# Altium footprint library GCMLibreriasPCB.PcbLib: 49 footprints (part 3 of 4)
Each footprint in its own frame and in the unit in brackets; x right, y up, seen from the top. Pads: shape width x height; smd on the part's side, far side on the other; paste and mask are expansions set on the pad; w line width, h text height; cw(c..) or ccw(c..) is an arc to the next point about the centre after c.
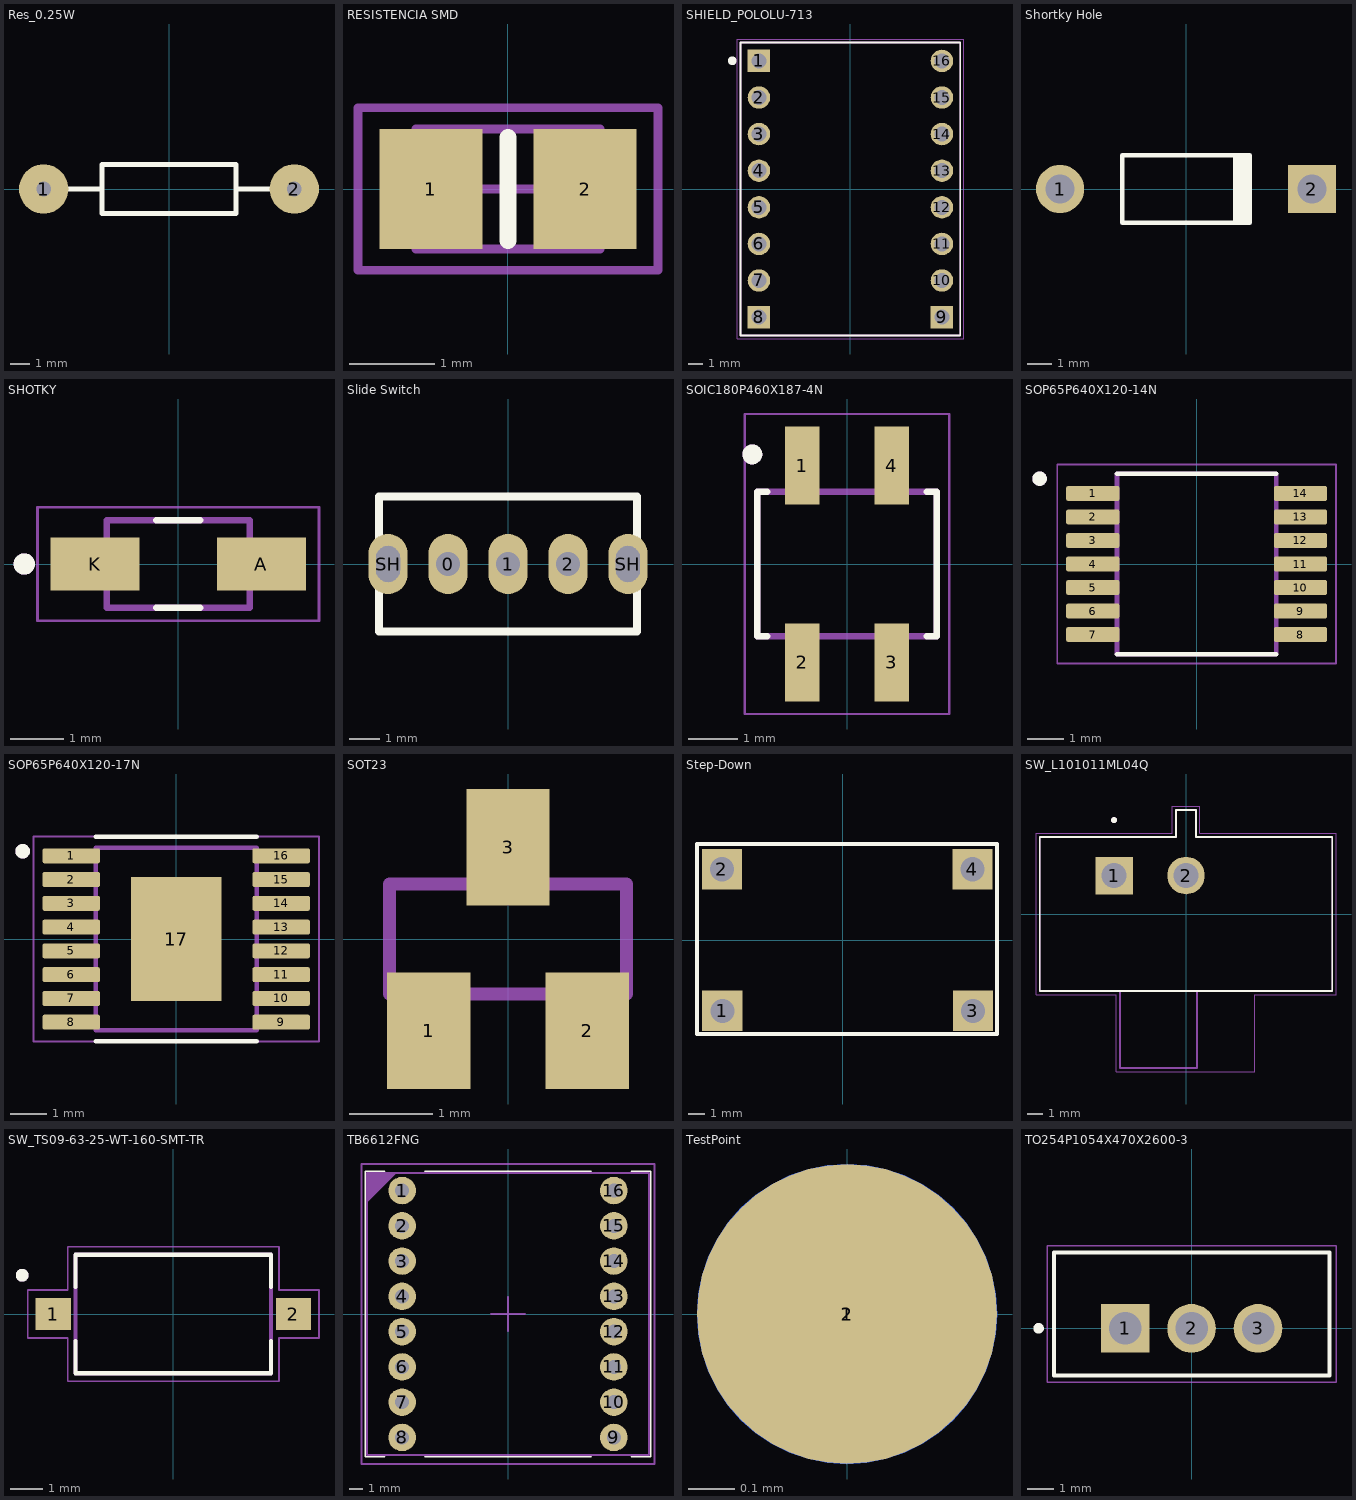
[diagram p2: the footprints below, top view; thin cyan lines are the x and y axes]

## Res_0.25W [mm]
pads (2):
  round 2.5 hole 0.75: 1(-6.35,0) 2(6.35,0)
Top Overlay:
  lines w0.254: -6.35,0 -3.4,0 ; 3.4,0 6.35,0 ; -3.4,-1.25 -3.4,1.25 3.4,1.25 3.4,-1.25 -3.4,-1.25

## RESISTENCIA SMD [mm] "0805"
height 0.7
pads (2):
  rect 1.2x1.4 smd: 1(-0.9,0) 2(0.9,0)
Top Overlay:
  lines w0.2: 0,-0.6 0,0.6
Mechanical 13:
  lines w0.1: -1.075,-0.7 1.075,-0.7 1.075,0.7 -1.075,0.7 -1.075,-0.7
Mechanical 15:
  lines w0.1: -0.5,0 0.5,0 ; 0,-0.5 0,0.5 ; -1.75,-0.95 1.75,-0.95 1.75,0.95 -1.75,0.95 -1.75,-0.95
3D body "ERA6AHD330V.STEP": height 0.6, standoff 0, extent -1,-0.61 1,0.64

## SHIELD_POLOLU-713 [mm]
pads (16):
  rect 1.56x1.56 hole 1.04: 1(-6.35,8.89) 8(-6.35,-8.89) 9(6.35,-8.89)
  round 1.56 hole 1.04: 2(-6.35,6.35) 3(-6.35,3.81) 4(-6.35,1.27) 5(-6.35,-1.27) 6(-6.35,-3.81) 7(-6.35,-6.35) 10(6.35,-6.35) 11(6.35,-3.81) 12(6.35,-1.27) 13(6.35,1.27) 14(6.35,3.81) 15(6.35,6.35) 16(6.35,8.89)
Top Overlay:
  circle w0.3: c-8.2,8.9 r0.15
  lines w0.127: -7.62,-10.16 -7.62,10.16 7.62,10.16 7.62,-10.16 -7.62,-10.16
Mechanical 13:
  lines w0.127: -7.62,-10.16 7.62,-10.16 7.62,10.16 -7.62,10.16 -7.62,-10.16
Mechanical 15:
  lines w0.05: -7.87,-10.41 -7.87,10.41 7.87,10.41 7.87,-10.41 -7.87,-10.41

## Shortky Hole [mm] "Diode, Axial; Body 5.2 x 2.7 mm (LxDia. max), Lead Dia. 0.86 mm (max)"
height 2.8
pads (2):
  round 2 hole 1.2: 1(-5.23,0)
  rect 2x2 hole 1.2: 2(5.23,0)
Top Overlay:
  rectangle: 1.95,-1.4 2.75,1.4
  lines w0.2: 2.65,-1.4 -2.65,-1.4 -2.65,1.4 2.65,1.4

## SHOTKY [mm]
pads (2):
  rect 1.68x1.01 smd: A(1.57,0) K(-1.57,0)
Top Overlay:
  circle w0.2: c-2.91,0 r0.1
  lines w0.127: -0.41,-0.825 0.41,-0.825 ; -0.41,0.825 0.41,0.825
Mechanical 13:
  circle w0.2: c-2.91,0 r0.1
  lines w0.127: -1.35,-0.825 1.35,-0.825 1.35,0.825 -1.35,0.825 -1.35,-0.825
Mechanical 15:
  lines w0.05: -2.66,-1.075 2.66,-1.075 2.66,1.075 -2.66,1.075 -2.66,-1.075
3D body "step_temp.STEP": height 0.98, standoff 0, extent -1.8,-0.825 1.8,0.825

## Slide Switch [mm]
pads (5):
  oval 1.3x2 hole 0.8: 0(-2,0) 1(0,0) 2(2,0)
  oval 1.3x2 hole 0.8 slot 1.2 at 90 deg: SH(-4,0) SH(4,0)
Top Overlay:
  lines w0.254: -4.3,-2.25 -4.3,2.25 4.3,2.25 4.3,-2.25 -4.3,-2.25
3D body "Vertical slide switch SS-12D00G3 High Knob 3mm SPDT v2.step": height 6.34, standoff -4.91, extent -4.28,-1.92 4.31,1.85

## SOIC180P460X187-4N [mm]
pads (4):
  rect 0.69x1.57 smd: 1(-0.9,1.975) 2(-0.9,-1.975) 3(0.9,-1.975) 4(0.9,1.975)
Top Overlay:
  circle w0.2: c-1.9,2.2 r0.1
  lines w0.127: -1.6,-1.45 -1.8,-1.45 -1.8,1.45 -1.6,1.45 ; 1.6,-1.45 1.8,-1.45 1.8,1.45 1.6,1.45
Mechanical 13:
  circle w0.2: c-1.9,2.2 r0.1
  lines w0.127: -1.8,-1.45 1.8,-1.45 1.8,1.45 -1.8,1.45 -1.8,-1.45
Mechanical 15:
  lines w0.05: -2.05,-3.01 2.05,-3.01 2.05,3.01 -2.05,3.01 -2.05,-3.01
3D body "step_temp.STEP": height 1.87, standoff 0, extent -1.7,-2.3 1.7,2.3

## SOP65P640X120-14N [mm]
pads (14):
  rrect25% 1.47x0.41 smd paste+0 mask+0.102: 1(-2.87,1.95) 2(-2.87,1.3) 3(-2.87,0.65) 4(-2.87,0) 5(-2.87,-0.65) 6(-2.87,-1.3) 7(-2.87,-1.95) 8(2.87,-1.95) 9(2.87,-1.3) 10(2.87,-0.65) 11(2.87,0) 12(2.87,0.65) 13(2.87,1.3) 14(2.87,1.95)
Top Overlay:
  circle w0.2: c-4.34,2.36 r0.1
  lines w0.127: -2.2,-2.5 2.2,-2.5 ; -2.2,2.5 2.2,2.5
Mechanical 13:
  circle w0.2: c-4.34,2.36 r0.1
  lines w0.127: -2.2,-2.5 2.2,-2.5 2.2,2.5 -2.2,2.5 -2.2,-2.5
Mechanical 15:
  lines w0.05: -3.855,-2.75 3.855,-2.75 3.855,2.75 -3.855,2.75 -3.855,-2.75
3D body "step_temp.STEP": height 1.2, standoff 0, extent -3.2,-2.5 3.2,2.5

## SOP65P640X120-17N [mm]
pads (17):
  rrect25% 1.57x0.41 smd: 1(-2.87,2.275) 2(-2.87,1.625) 3(-2.87,0.975) 4(-2.87,0.325) 5(-2.87,-0.325) 6(-2.87,-0.975) 7(-2.87,-1.625) 8(-2.87,-2.275) 9(2.87,-2.275) 10(2.87,-1.625) 11(2.87,-0.975) 12(2.87,-0.325) 13(2.87,0.325) 14(2.87,0.975) 15(2.87,1.625) 16(2.87,2.275)
  rect 2.48x3.4 smd paste-3: 17(0,0)
Top Overlay:
  circle w0.2: c-4.2,2.4 r0.1
  lines w0.127: -2.2,-2.8 2.2,-2.8 ; -2.2,2.8 2.2,2.8
Top Paste:
  region: 0.8,-1.075 -0.8,-1.075 -0.8,1.075 0.8,1.075
Mechanical 13:
  circle w0.2: c-4.2,2.4 r0.1
  lines w0.127: -2.2,-2.5 -2.2,2.5 2.2,2.5 2.2,-2.5 -2.2,-2.5
Mechanical 15:
  lines w0.05: -3.905,-2.8 -3.905,2.8 3.905,2.8 3.905,-2.8 -3.905,-2.8
3D body "step_temp.STEP": height 1.2, standoff 0, extent -3.2,-2.5 3.2,2.5

## SOT23 [mm]
pads (3):
  rect 1x1.4 smd paste+0 mask+0.102: 1(-0.95,-1.1) 2(0.95,-1.1) 3(0,1.1)
Mechanical 13:
  region: 0.229,0.711 -0.229,0.711 -0.229,1.295 0.229,1.295
  region: 1.168,-1.295 0.711,-1.295 0.711,-0.711 1.168,-0.711
  region: -0.711,-1.295 -1.168,-1.295 -1.168,-0.711 -0.711,-0.711
  lines w0.152: -1.422,-0.66 1.422,-0.66 1.422,0.66 -1.422,0.66 -1.422,-0.66
3D body "step_temp.STEP": height 1.25, standoff 0, extent -1.45,-1.4 1.45,1.4

## Step-Down [mm]
pads (4):
  rect 2.5x2.5 hole 1.5 mask+0: 1(-7.468,-4.4) 2(-7.493,4.4) 3(8.103,-4.4) 4(8.077,4.4)
Top Overlay:
  lines w0.254: -9.042,-5.842 9.601,-5.842 9.601,5.969 -9.042,5.969 -9.042,-5.842
3D body "STEPV3.step": height 4, standoff 0, extent -8.195,-5.563 8.805,5.737

## SW_L101011ML04Q [mm]
height 10.46
pads (2):
  rect 2.475x2.475 / inner round 2.475 / far side rect 2.475x2.475 hole 1.65: 1(-4.75,2.54)
  round 2.475 hole 1.65: 2(0,2.54)
Top Overlay:
  circle w0.2: c-4.75,6.2 r0.1
  lines w0.127: -9.65,-5.08 -9.65,5.08 -0.65,5.08 -0.65,6.86 0.65,6.86 0.65,5.08 9.65,5.08 9.65,-5.08 -9.65,-5.08
Mechanical 13:
  circle w0.2: c-4.75,6.2 r0.1
  lines w0.127: -4.35,-5.08 -9.65,-5.08 -9.65,5.08 -0.65,5.08 -0.65,6.86 0.65,6.86 0.65,5.08 9.65,5.08 9.65,-5.08 0.73,-5.08 ; -4.35,-5.08 0.73,-5.08 ; -4.35,-5.08 -4.35,-10.16 0.73,-10.16 0.73,-5.08
Mechanical 15:
  lines w0.05: -9.9,-5.33 -9.9,5.33 -0.9,5.33 -0.9,7.11 0.9,7.11 0.9,5.33 9.9,5.33 9.9,-5.33 4.54,-5.33 4.54,-10.41 -4.6,-10.41 -4.6,-5.33 -9.9,-5.33
3D body "step_temp.STEP": height 10.46, standoff -3.96, extent -9.652,-10.287 9.652,6.731

## SW_TS09-63-25-WT-160-SMT-TR [mm]
height 2.5
pads (2):
  rect 1.1x1 smd: 1(-3.75,0) 2(3.75,0)
Top Overlay:
  circle w0.2: c-4.72,1.21 r0.1
  lines w0.127: -3.05,-0.85 -3.05,-1.85 3.05,-1.85 3.05,-0.85 ; -3.05,0.85 -3.05,1.85 3.05,1.85 3.05,0.85
Mechanical 13:
  circle w0.2: c-4.72,1.21 r0.1
  lines w0.127: -3.05,-1.85 -3.05,1.85 3.05,1.85 3.05,-1.85 -3.05,-1.85
Mechanical 15:
  lines w0.05: -4.55,-0.75 -3.3,-0.75 -3.3,-2.1 3.3,-2.1 3.3,-0.75 4.55,-0.75 4.55,0.75 3.3,0.75 3.3,2.1 -3.3,2.1 -3.3,0.75 -4.55,0.75 -4.55,-0.75
3D body "step_temp.STEP": height 2.5, standoff -0.05, extent -4.05,-1.85 4.05,1.85

## TB6612FNG [mm]
pads (16):
  round 1.98 hole 1: 1(-7.62,8.89) 2(-7.62,6.35) 3(-7.62,3.81) 4(-7.62,1.27) 5(-7.62,-1.27) 6(-7.62,-3.81) 7(-7.62,-6.35) 8(-7.62,-8.89) 9(7.62,-8.89) 10(7.62,-6.35) 11(7.62,-3.81) 12(7.62,-1.27) 13(7.62,1.27) 14(7.62,3.81) 15(7.62,6.35) 16(7.62,8.89)
Top Overlay:
  lines w0.127: -8.89,-10.28 -10.275,-10.28 -10.275,10.28 -8.89,10.28 ; -6,-10.285 6,-10.285 ; -6,10.285 6,10.285 ; 8.89,-10.28 10.275,-10.28 10.275,10.28 8.89,10.28
Top Courtyard:
  lines w0.127: -1.25,0 1.25,0 ; 0,-1.25 0,1.25 ; -10.55,-10.8 10.55,-10.8 10.55,10.8 -10.55,10.8 -10.55,-10.8
Top Assembly:
  region: -8,10.16 -10.16,10.16 -10.16,8
  lines w0.127: -10.16,-10.16 10.16,-10.16 10.16,10.16 -10.16,10.16 -10.16,-10.16
3D body "TB6612FNG Module.STEP": height 6.12, standoff -5.99, extent -10.452,-10.28 10.452,10.7

## TestPoint [mm]
pads (2):
  round 0.65 smd far side: 1(0,0)
  round 0.65 smd: 2(0,0)

## TO254P1054X470X2600-3 [mm]
pads (3):
  rect 1.86x1.86 / inner round 1.86 / far side rect 1.86x1.86 hole 1.24: 1(-2.54,0)
  round 1.86 hole 1.24: 2(0,0) 3(2.54,0)
Top Overlay:
  circle w0.2: c-5.85,0 r0.1
  lines w0.152: -5.27,-1.8 -5.27,2.9 5.27,2.9 5.27,-1.8 -5.27,-1.8
Mechanical 13:
  lines w0.127: -5.27,-1.8 -5.27,2.9 5.27,2.9 5.27,-1.8 -5.27,-1.8
Mechanical 15:
  lines w0.05: -5.52,-2.052 5.52,-2.052 5.52,3.148 -5.52,3.148 -5.52,-2.052
3D body "step_temp.STEP": height 20.4, standoff -9.94, extent -5.08,-1.667 5.08,2.683